# Altium footprint library ESP32-S3-PICO-1-N8R2.PcbLib: 3 footprints
Each footprint in its own frame and in the unit in brackets; x right, y up, seen from the top. Pads: shape width x height; smd on the part's side, far side on the other; paste and mask are expansions set on the pad; w line width, h text height; cw(c..) or ccw(c..) is an arc to the next point about the centre after c.
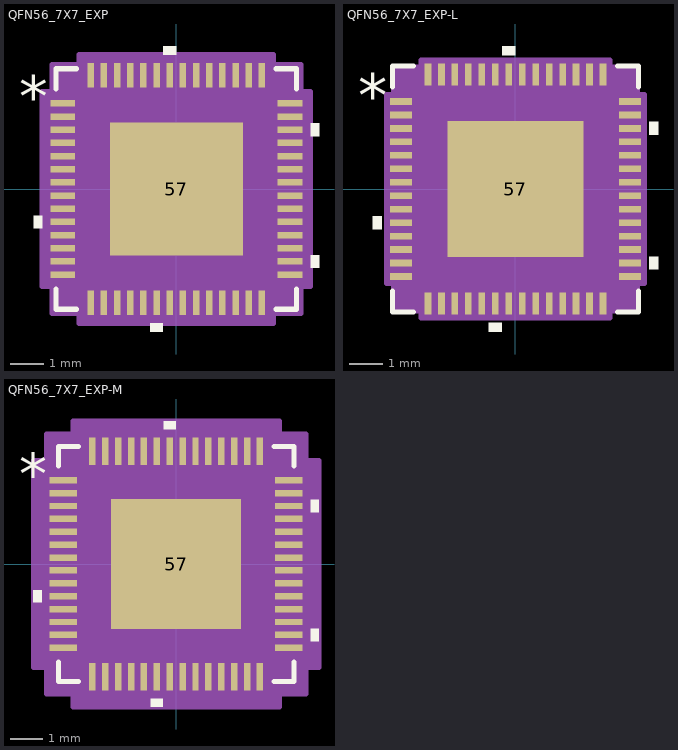
[diagram p0: the footprints below, top view; thin cyan lines are the x and y axes]

## QFN56_7X7_EXP [mm]
pads (57):
  rect 0.75x0.2 smd paste+0 mask+0: 1(-3.45,2.6) 2(-3.45,2.2) 3(-3.45,1.8) 4(-3.45,1.4) 5(-3.45,1) 6(-3.45,0.6) 7(-3.45,0.2) 8(-3.45,-0.2) 9(-3.45,-0.6) 10(-3.45,-1) 11(-3.45,-1.4) 12(-3.45,-1.8) 13(-3.45,-2.2) 14(-3.45,-2.6) 29(3.45,-2.6) 30(3.45,-2.2) 31(3.45,-1.8) 32(3.45,-1.4) 33(3.45,-1) 34(3.45,-0.6) 35(3.45,-0.2) 36(3.45,0.2) 37(3.45,0.6) 38(3.45,1) 39(3.45,1.4) 40(3.45,1.8) 41(3.45,2.2) 42(3.45,2.6)
  rect 0.2x0.75 smd paste+0 mask+0: 15(-2.6,-3.45) 16(-2.2,-3.45) 17(-1.8,-3.45) 18(-1.4,-3.45) 19(-1,-3.45) 20(-0.6,-3.45) 21(-0.2,-3.45) 22(0.2,-3.45) 23(0.6,-3.45) 24(1,-3.45) 25(1.4,-3.45) 26(1.8,-3.45) 27(2.2,-3.45) 28(2.6,-3.45) 43(2.6,3.45) 44(2.2,3.45) 45(1.8,3.45) 46(1.4,3.45) 47(1,3.45) 48(0.6,3.45) 49(0.2,3.45) 50(-0.2,3.45) 51(-0.6,3.45) 52(-1,3.45) 53(-1.4,3.45) 54(-1.8,3.45) 55(-2.2,3.45) 56(-2.6,3.45)
  rect 4.039x4.039 smd paste-2.019 mask+0: 57(0,0)
Top Overlay:
  region: -4.079,-0.81 -4.333,-0.81 -4.333,-1.191 -4.079,-1.191
  region: -0.409,-4.079 -0.79,-4.079 -0.79,-4.333 -0.409,-4.333
  region: 4.079,-2.01 4.333,-2.01 4.333,-2.391 4.079,-2.391
  region: 4.079,1.99 4.333,1.99 4.333,1.609 4.079,1.609
  region: -0.009,4.079 -0.39,4.079 -0.39,4.333 -0.009,4.333
  lines w0.152: -3.652,-3.033 -3.652,-3.652 -3.033,-3.652 ; -3.652,3.033 -3.652,3.652 -3.033,3.652 ; 3.033,-3.652 3.652,-3.652 3.652,-3.033 ; 3.033,3.652 3.652,3.652 3.652,3.033
  text "*" at -4.778,2.165 h1.27
  text ".Designator" at -3.492,-0.635 h1.27
Top Paste:
  region: -0.773,1.919 -1.919,1.919 -1.919,0.773 -0.773,0.773
  region: -0.773,0.573 -1.919,0.573 -1.919,-0.573 -0.773,-0.573
  region: -0.773,-0.773 -1.919,-0.773 -1.919,-1.919 -0.773,-1.919
  region: 0.573,1.919 -0.573,1.919 -0.573,0.773 0.573,0.773
  region: 0.573,0.573 -0.573,0.573 -0.573,-0.573 0.573,-0.573
  region: 0.573,-0.773 -0.573,-0.773 -0.573,-1.919 0.573,-1.919
  region: 1.919,1.919 0.773,1.919 0.773,0.773 1.919,0.773
  region: 1.919,0.573 0.773,0.573 0.773,-0.573 1.919,-0.573
  region: 1.919,-0.773 0.773,-0.773 0.773,-1.919 1.919,-1.919
Mechanical 13:
  drawing of 233 lines, arcs and shapes, not listed
  text ".Designator" at -3.492,-0.635 h1.27
  text "*" at -3.393,2.165 h1.27
Mechanical 15:
  region: -2.954,-3.779 -3.779,-3.779 -3.779,-2.954 -4.079,-2.954 -4.079,2.954 -3.779,2.954 -3.779,3.779 -2.954,3.779 -2.954,4.079 2.954,4.079 2.954,3.779 3.779,3.779 3.779,2.954 4.079,2.954 4.079,-2.954 3.779,-2.954 3.779,-3.779 2.954,-3.779 2.954,-4.079 -2.954,-4.079
  lines w0.152: -4.079,-2.954 -3.779,-2.954 -3.779,-3.779 -2.954,-3.779 -2.954,-4.079 2.954,-4.079 2.954,-3.779 3.779,-3.779 3.779,-2.954 4.079,-2.954 4.079,2.954 3.779,2.954 3.779,3.779 2.954,3.779 2.954,4.079 -2.954,4.079 -2.954,3.779 -3.779,3.779 -3.779,2.954 -4.079,2.954 -4.079,-2.954
3D body "QFN56_7X7_EXP.step": height 0.89, standoff 0, extent -3.525,-3.525 3.525,3.525

## QFN56_7X7_EXP-L [mm]
pads (57):
  rect 0.65x0.2 smd paste+0 mask+0: 1(-3.4,2.6) 2(-3.4,2.2) 3(-3.4,1.8) 4(-3.4,1.4) 5(-3.4,1) 6(-3.4,0.6) 7(-3.4,0.2) 8(-3.4,-0.2) 9(-3.4,-0.6) 10(-3.4,-1) 11(-3.4,-1.4) 12(-3.4,-1.8) 13(-3.4,-2.2) 14(-3.4,-2.6) 29(3.4,-2.6) 30(3.4,-2.2) 31(3.4,-1.8) 32(3.4,-1.4) 33(3.4,-1) 34(3.4,-0.6) 35(3.4,-0.2) 36(3.4,0.2) 37(3.4,0.6) 38(3.4,1) 39(3.4,1.4) 40(3.4,1.8) 41(3.4,2.2) 42(3.4,2.6)
  rect 0.2x0.65 smd paste+0 mask+0: 15(-2.6,-3.4) 16(-2.2,-3.4) 17(-1.8,-3.4) 18(-1.4,-3.4) 19(-1,-3.4) 20(-0.6,-3.4) 21(-0.2,-3.4) 22(0.2,-3.4) 23(0.6,-3.4) 24(1,-3.4) 25(1.4,-3.4) 26(1.8,-3.4) 27(2.2,-3.4) 28(2.6,-3.4) 43(2.6,3.4) 44(2.2,3.4) 45(1.8,3.4) 46(1.4,3.4) 47(1,3.4) 48(0.6,3.4) 49(0.2,3.4) 50(-0.2,3.4) 51(-0.6,3.4) 52(-1,3.4) 53(-1.4,3.4) 54(-1.8,3.4) 55(-2.2,3.4) 56(-2.6,3.4)
  rect 4.039x4.039 smd paste-2.019 mask+0: 57(0,0)
Top Overlay:
  region: -3.979,-0.81 -4.233,-0.81 -4.233,-1.191 -3.979,-1.191
  region: -0.409,-3.979 -0.79,-3.979 -0.79,-4.233 -0.409,-4.233
  region: 3.979,-2.01 4.233,-2.01 4.233,-2.391 3.979,-2.391
  region: 3.979,1.99 4.233,1.99 4.233,1.609 3.979,1.609
  region: -0.009,3.979 -0.39,3.979 -0.39,4.233 -0.009,4.233
  lines w0.152: -3.652,-3.033 -3.652,-3.652 -3.033,-3.652 ; -3.652,3.033 -3.652,3.652 -3.033,3.652 ; 3.033,-3.652 3.652,-3.652 3.652,-3.033 ; 3.033,3.652 3.652,3.652 3.652,3.033
  text "*" at -4.678,2.165 h1.27
  text ".Designator" at -3.492,-0.635 h1.27
Top Paste:
  region: -0.773,1.919 -1.919,1.919 -1.919,0.773 -0.773,0.773
  region: -0.773,0.573 -1.919,0.573 -1.919,-0.573 -0.773,-0.573
  region: -0.773,-0.773 -1.919,-0.773 -1.919,-1.919 -0.773,-1.919
  region: 0.573,1.919 -0.573,1.919 -0.573,0.773 0.573,0.773
  region: 0.573,0.573 -0.573,0.573 -0.573,-0.573 0.573,-0.573
  region: 0.573,-0.773 -0.573,-0.773 -0.573,-1.919 0.573,-1.919
  region: 1.919,1.919 0.773,1.919 0.773,0.773 1.919,0.773
  region: 1.919,0.573 0.773,0.573 0.773,-0.573 1.919,-0.573
  region: 1.919,-0.773 0.773,-0.773 0.773,-1.919 1.919,-1.919
Mechanical 13:
  drawing of 233 lines, arcs and shapes, not listed
  text ".Designator" at -3.492,-0.635 h1.27
  text "*" at -3.393,2.165 h1.27
Mechanical 15:
  region: -2.802,-3.627 -3.627,-3.627 -3.627,-2.802 -3.827,-2.802 -3.827,2.802 -3.627,2.802 -3.627,3.627 -2.802,3.627 -2.802,3.827 2.802,3.827 2.802,3.627 3.627,3.627 3.627,2.802 3.827,2.802 3.827,-2.802 3.627,-2.802 3.627,-3.627 2.802,-3.627 2.802,-3.827 -2.802,-3.827
  lines w0.152: -3.827,-2.802 -3.627,-2.802 -3.627,-3.627 -2.802,-3.627 -2.802,-3.827 2.802,-3.827 2.802,-3.627 3.627,-3.627 3.627,-2.802 3.827,-2.802 3.827,2.802 3.627,2.802 3.627,3.627 2.802,3.627 2.802,3.827 -2.802,3.827 -2.802,3.627 -3.627,3.627 -3.627,2.802 -3.827,2.802 -3.827,-2.802
3D body "QFN56_7X7_EXP.step": height 0.89, standoff 0, extent -3.525,-3.525 3.525,3.525

## QFN56_7X7_EXP-M [mm]
pads (57):
  rect 0.85x0.2 smd paste+0 mask+0: 1(-3.5,2.6) 2(-3.5,2.2) 3(-3.5,1.8) 4(-3.5,1.4) 5(-3.5,1) 6(-3.5,0.6) 7(-3.5,0.2) 8(-3.5,-0.2) 9(-3.5,-0.6) 10(-3.5,-1) 11(-3.5,-1.4) 12(-3.5,-1.8) 13(-3.5,-2.2) 14(-3.5,-2.6) 29(3.5,-2.6) 30(3.5,-2.2) 31(3.5,-1.8) 32(3.5,-1.4) 33(3.5,-1) 34(3.5,-0.6) 35(3.5,-0.2) 36(3.5,0.2) 37(3.5,0.6) 38(3.5,1) 39(3.5,1.4) 40(3.5,1.8) 41(3.5,2.2) 42(3.5,2.6)
  rect 0.2x0.85 smd paste+0 mask+0: 15(-2.6,-3.5) 16(-2.2,-3.5) 17(-1.8,-3.5) 18(-1.4,-3.5) 19(-1,-3.5) 20(-0.6,-3.5) 21(-0.2,-3.5) 22(0.2,-3.5) 23(0.6,-3.5) 24(1,-3.5) 25(1.4,-3.5) 26(1.8,-3.5) 27(2.2,-3.5) 28(2.6,-3.5) 43(2.6,3.5) 44(2.2,3.5) 45(1.8,3.5) 46(1.4,3.5) 47(1,3.5) 48(0.6,3.5) 49(0.2,3.5) 50(-0.2,3.5) 51(-0.6,3.5) 52(-1,3.5) 53(-1.4,3.5) 54(-1.8,3.5) 55(-2.2,3.5) 56(-2.6,3.5)
  rect 4.039x4.039 smd paste-2.019 mask+0: 57(0,0)
Top Overlay:
  region: -4.179,-0.81 -4.433,-0.81 -4.433,-1.191 -4.179,-1.191
  region: -0.409,-4.179 -0.79,-4.179 -0.79,-4.433 -0.409,-4.433
  region: 4.179,-2.01 4.433,-2.01 4.433,-2.391 4.179,-2.391
  region: 4.179,1.99 4.433,1.99 4.433,1.609 4.179,1.609
  region: -0.009,4.179 -0.39,4.179 -0.39,4.433 -0.009,4.433
  lines w0.152: -3.652,-3.033 -3.652,-3.652 -3.033,-3.652 ; -3.652,3.033 -3.652,3.652 -3.033,3.652 ; 3.033,-3.652 3.652,-3.652 3.652,-3.033 ; 3.033,3.652 3.652,3.652 3.652,3.033
  text "*" at -4.877,2.165 h1.27
  text ".Designator" at -3.492,-0.635 h1.27
Top Paste:
  region: -0.773,1.919 -1.919,1.919 -1.919,0.773 -0.773,0.773
  region: -0.773,0.573 -1.919,0.573 -1.919,-0.573 -0.773,-0.573
  region: -0.773,-0.773 -1.919,-0.773 -1.919,-1.919 -0.773,-1.919
  region: 0.573,1.919 -0.573,1.919 -0.573,0.773 0.573,0.773
  region: 0.573,0.573 -0.573,0.573 -0.573,-0.573 0.573,-0.573
  region: 0.573,-0.773 -0.573,-0.773 -0.573,-1.919 0.573,-1.919
  region: 1.919,1.919 0.773,1.919 0.773,0.773 1.919,0.773
  region: 1.919,0.573 0.773,0.573 0.773,-0.573 1.919,-0.573
  region: 1.919,-0.773 0.773,-0.773 0.773,-1.919 1.919,-1.919
Mechanical 13:
  drawing of 233 lines, arcs and shapes, not listed
  text ".Designator" at -3.492,-0.635 h1.27
  text "*" at -3.393,2.165 h1.27
Mechanical 15:
  region: -3.208,-4.033 -4.033,-4.033 -4.033,-3.208 -4.433,-3.208 -4.433,3.208 -4.033,3.208 -4.033,4.033 -3.208,4.033 -3.208,4.433 3.208,4.433 3.208,4.033 4.033,4.033 4.033,3.208 4.433,3.208 4.433,-3.208 4.033,-3.208 4.033,-4.033 3.208,-4.033 3.208,-4.433 -3.208,-4.433
  lines w0.152: -4.433,-3.208 -4.033,-3.208 -4.033,-4.033 -3.208,-4.033 -3.208,-4.433 3.208,-4.433 3.208,-4.033 4.033,-4.033 4.033,-3.208 4.433,-3.208 4.433,3.208 4.033,3.208 4.033,4.033 3.208,4.033 3.208,4.433 -3.208,4.433 -3.208,4.033 -4.033,4.033 -4.033,3.208 -4.433,3.208 -4.433,-3.208
3D body "QFN56_7X7_EXP.step": height 0.89, standoff 0, extent -3.525,-3.525 3.525,3.525